# EAGLE library part LT1018 (library linear-technology)
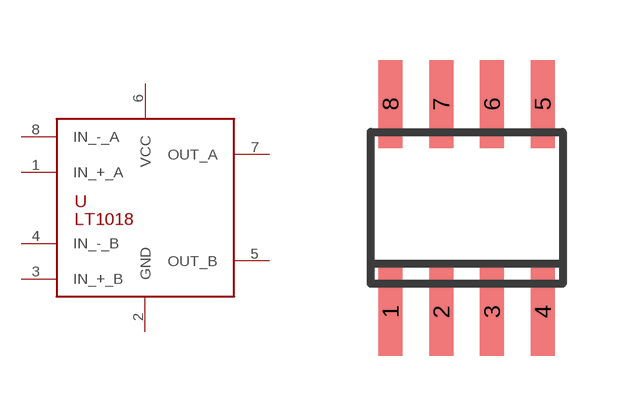
[diagram p33: symbol with the pads of SOIC8; footprint SOIC8]

Designator prefix -

## LT1018  [SOIC8]
1  IN_+_A  in
2  GND  pwr
3  IN_+_B  in
4  IN_-_B  in
5  OUT_B  out
6  VCC  pwr
7  OUT_A  out
8  IN_-_A  in

## Footprint SOIC8 (pad centres in mm)
smd 0.6 x 2.2: 1 -1.905,-2.6; 2 -0.635,-2.6; 3 0.635,-2.6; 4 1.905,-2.6; 5 1.905,2.6; 6 0.635,2.6; 7 -0.635,2.6; 8 -1.905,2.6